# EAGLE library part LM2717 (library m-pad-2.1)
National's LM2717-ADJ Dual Step-Down DC/DC Converter Description: The LM2717-ADJ is composed of two PWM DC/DC buck (step-down) converters. Both converters are used to generate an adjustable output voltage as low as 1.267V. Both also feature low RDSON (0.16?) internal switches for maximum efficiency. Operating frequency can be adjusted anywhere between 300kHz and 600kHz allowing the use of small external components. External soft-start pins for each converter enables the user to tailor the soft-start times to a specific application. Each converter may also be shut down independently with its own shutdown pin. The LM2717-ADJ is available in a low profile 24-lead TSSOP package ensuring a low profile overall solution. Features: Adjustable buck converter with a 2.2A, 0.16?, internal switch (Buck 1) Adjustable buck converter with a 3.2A, 0.16?, internal switch (Buck 2) Operating input voltage range of 4V to 20V Input undervoltage protection 300kHz to 600kHz pin adjustable operating frequency Over temperature protection Small 24-Lead TSSOP package Applications: TFT-LCD Displays Handheld Devices Portable Applications Laptop Computers Automotive Applications Please send any comments to: messi@users.sourceforge.net
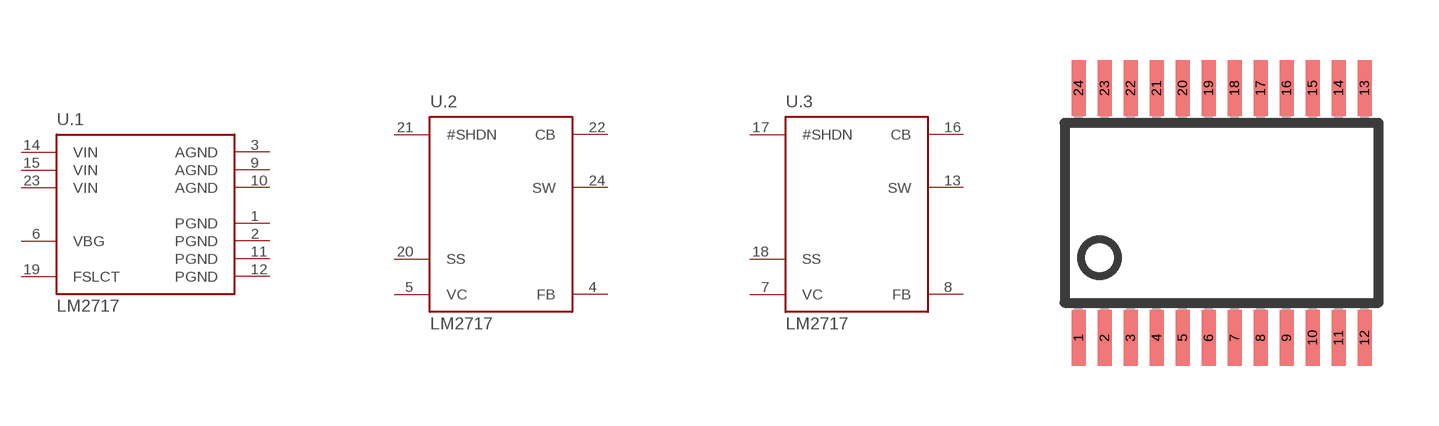
[diagram p181: symbol with the pads of TSSOP-24; footprint TSSOP-24]

Designator prefix U; gates .1=LM2717_PWR .2=LM2717 .3=LM2717

## LM2717  [TSSOP-24]
1  .1:PGND  pwr
2  .1:PGND  pwr
3  .1:AGND  pwr
4  .2:FB  in
5  .2:VC  in
6  .1:VBG  in
7  .3:VC  in
8  .3:FB  in
9  .1:AGND  pwr
10  .1:AGND  pwr
11  .1:PGND  pwr
12  .1:PGND  pwr
13  .3:SW  in
14  .1:VIN  pwr
15  .1:VIN  pwr
16  .3:CB  in
17  .3:#SHDN  pas
18  .3:SS  in
19  .1:FSLCT  in
20  .2:SS  in
21  .2:#SHDN  pas
22  .2:CB  in
23  .1:VIN  pwr
24  .2:SW  in

## Footprint TSSOP-24 (pad centres in mm)
TSSOP-24 4.5mm body ie. bq24702/3
smd 0.35 x 1.4: 1 -3.725,-3.125; 2 -3.075,-3.125; 3 -2.425,-3.125; 4 -1.775,-3.125; 5 -1.125,-3.125; 6 -0.475,-3.125; 7 0.175,-3.125; 8 0.825,-3.125; 9 1.475,-3.125; 10 2.125,-3.125; 11 2.775,-3.125; 12 3.425,-3.125; 13 3.425,3.125; 14 2.775,3.125; 15 2.125,3.125; 16 1.475,3.125; 17 0.825,3.125; 18 0.175,3.125; 19 -0.475,3.125; 20 -1.125,3.125; 21 -1.775,3.125; 22 -2.425,3.125; 23 -3.075,3.125; 24 -3.725,3.125